# EAGLE library part LTC2311CMSE-12 (library ICs)
12bit, 5 MSPS Differential Input ADC with WideInput Common Mode Range
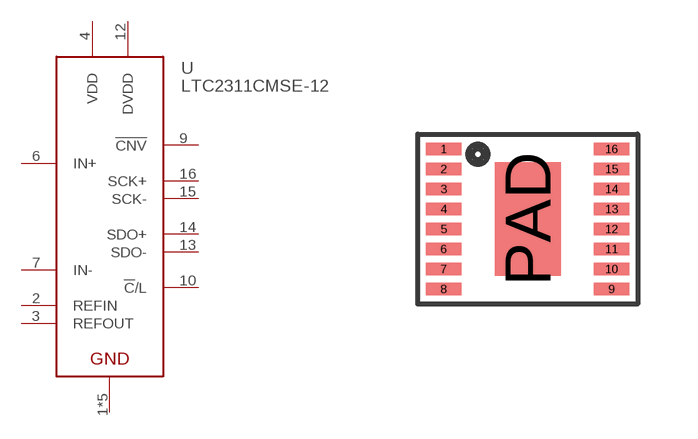
[diagram p306: symbol with the pads of MSOP16E; footprint MSOP16E]

Designator prefix U

## LTC2311CMSE-12 (DIGIKEY: LTC2311CMSE-12#PBF-ND; HEIGHT: 2; PRICE_PER: 12.05; VALUE: LTC2311)  [MSOP16E]
1  GND
2  REFIN
3  REFOUT
4  VDD
5  GND
6  IN+
7  IN-
8  GND
9  !CNV
10  !C!/L
11  GND
12  DVDD
13  SDO-
14  SDO+
15  SCK-
16  SCK+
PAD  GND

## Footprint MSOP16E (pad centres in mm)
smd 0.889 x 0.305: 1 -2.1,1.75; 2 -2.1,1.25; 3 -2.1,0.75; 4 -2.1,0.25; 5 -2.1,-0.25; 6 -2.1,-0.75; 7 -2.1,-1.25; 8 -2.1,-1.75; 9 2.1,-1.75; 10 2.1,-1.25; 11 2.1,-0.75; 12 2.1,-0.25; 13 2.1,0.25; 14 2.1,0.75; 15 2.1,1.25; 16 2.1,1.75
smd 1.65 x 2.845: PAD 0,0